# Altium integrated library 74HC14D.IntLib: 1 symbol
Pins are listed as number, name and electrical type; pins without a type are passive.

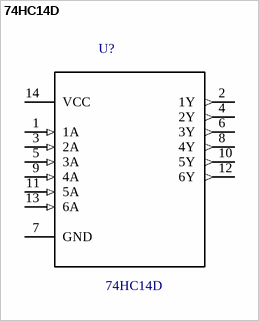
[diagram p0: symbol 74HC14D]

## 74HC14D
designator U?
/ 74HC CMOS logic IC series SOIC14 Hex Schmitt Inverter /; MF: Toshiba Semiconductor; SnapEDA_Link: https://www.snapeda.com/parts/74HC14D/Toshiba%20Semiconductor%20and%20Storage/view-part/?ref=snap; Digi-Key_Part_Number: 74HC14DCT-ND; Digi-Key_Purchase_URL: https://www.digikey.vn/product-detail/en/toshiba-semiconductor-and-storage/74HC14D/74HC14DCT-ND/6109122?utm_source=snapeda&utm_medium=aggregator&utm_campaign=symbol; MP: 74HC14D; Package: SOIC-14 Toshiba; Value: *
footprint *SOIC127P600X175-14N
pins: 1 1A (in), 2 1Y (out), 3 2A (in), 4 2Y (out), 5 3A (in), 6 3Y (out), 7 GND, 8 4Y (out), 9 4A (in), 10 5Y (out), 11 5A (in), 12 6Y (out), 13 6A (in), 14 VCC (power)